# EAGLE library part X9511WP (library Intersil_By_element14_Batch_1)
Push Button Controlled
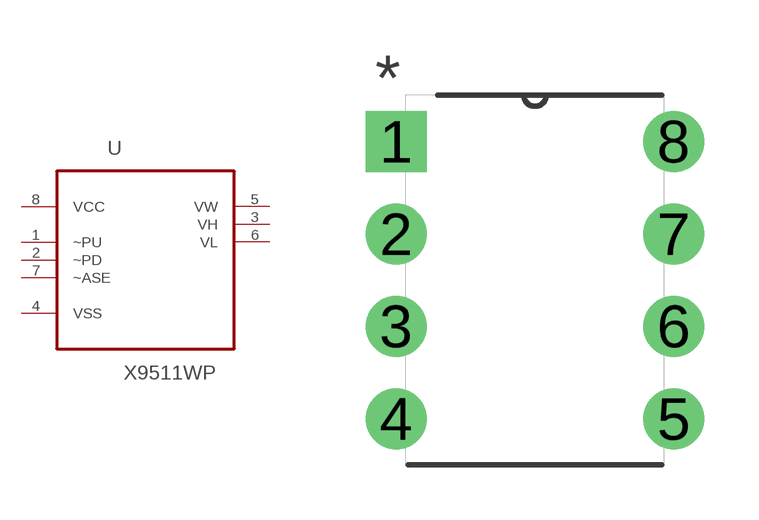
[diagram p232: symbol with the pads of DIP254P762X533-8; footprint DIP254P762X533-8]

Designator prefix U

## X9511WP (MPN: X9511WP; OC_FARNELL: 9784497; OC_NEWARK: 62J1034; PACKAGE: PDIP-8; SUPPLIER: INTERSIL)  [DIP254P762X533-8]
1  ~PU  in
2  ~PD  in
3  VH  pas
4  VSS  pas
5  VW  pas
6  VL  pas
7  ~ASE  in
8  VCC  pwr

## Footprint DIP254P762X533-8 (pad centres in mm)
drill 1.118 square: 1 -7.62,7.62
drill 1.118: 2 -7.62,5.08; 3 -7.62,2.54; 4 -7.62,0; 5 0,0; 6 0,2.54; 7 0,5.08; 8 0,7.62